# Altium footprint library layout.PcbLib: 1 footprints
Each footprint in its own frame and in the unit in brackets; x right, y up, seen from the top. Pads: shape width x height; smd on the part's side, far side on the other; paste and mask are expansions set on the pad; w line width, h text height; cw(c..) or ccw(c..) is an arc to the next point about the centre after c.
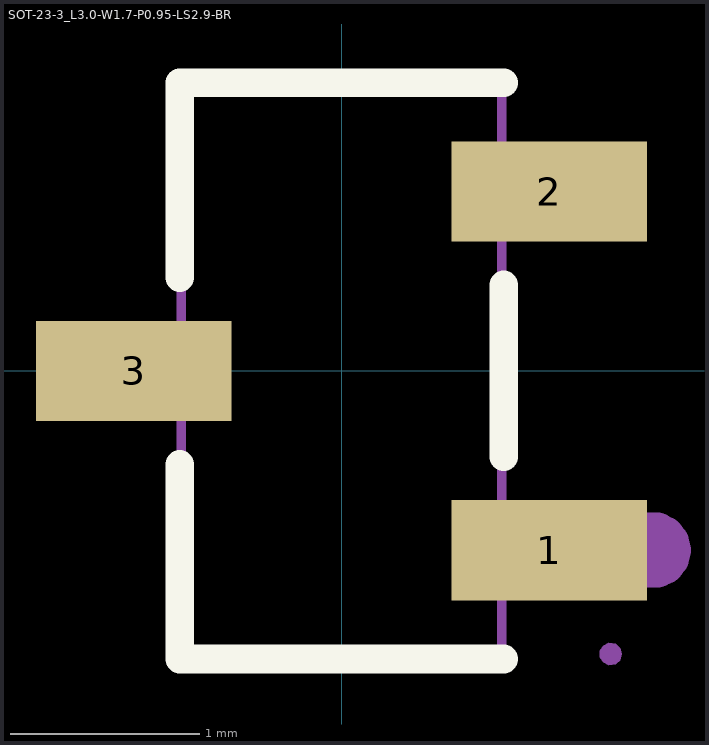
[diagram p0: the footprint, top view; thin cyan lines are the x and y axes]

## SOT-23-3_L3.0-W1.7-P0.95-LS2.9-BR [mm]
pads (3):
  rect 1.036x0.531 smd: 1(1.1,-0.95) 2(1.1,0.95) 3(-1.102,0)
Top Overlay:
  lines w0.152: -0.859,-0.495 -0.859,-1.527 0.859,-1.527 ; -0.859,0.495 -0.859,1.527 0.859,1.527 ; 0.859,-0.455 0.859,0.455
Mechanical 6:
  lines w0.201: 1.549,-0.95 1.56,-0.907 1.587,-0.871 1.628,-0.851 1.671,-0.851 1.712,-0.871 1.74,-0.907 1.75,-0.95 1.74,-0.993 1.712,-1.029 1.671,-1.046 1.628,-1.046 1.587,-1.029 1.56,-0.993 1.549,-0.95
Mechanical 7:
  lines w0.051: -0.851,-1.499 -0.851,1.501 0.848,1.501 0.848,-1.499 -0.851,-1.499
Mechanical 8:
  region: 1.483,-1.499 1.476,-1.532 1.45,-1.554 1.415,-1.56 1.384,-1.544 1.367,-1.516 1.367,-1.483 1.384,-1.455 1.415,-1.44 1.45,-1.445 1.476,-1.468
Mechanical 9:
  region: 1.001,-1.138 1.001,-0.762 1.425,-0.762 1.425,-1.138
  region: 1.001,0.762 1.001,1.138 1.425,1.138 1.425,0.762
  region: -1.425,-0.188 -1.425,0.188 -1.001,0.188 -1.001,-0.188
Mechanical 10:
  region: 0.815,-1.138 0.815,-0.762 1.008,-0.762 1.008,-1.138
  region: 0.815,0.762 0.815,1.138 1.008,1.138 1.008,0.762
  region: -1.011,-0.188 -1.011,0.188 -0.815,0.188 -0.815,-0.188